# EAGLE library part MODULO (library drv8833)
This board is very similar to our DRV8835 dual motor driver carrier in operating voltage range and continuous current rating, but the DRV8835 has a lower minimum operating voltage, offers an extra control interface mode, and is 0.1″ smaller in each dimension; we also carry a DRV8835 dual motor driver shield that is easy to use with an Arduino. The DRV8833 has a higher peak current rating (2 A per channel vs 1.5 A), optional built-in current-limiting, and no need for externally supplied logic voltage.
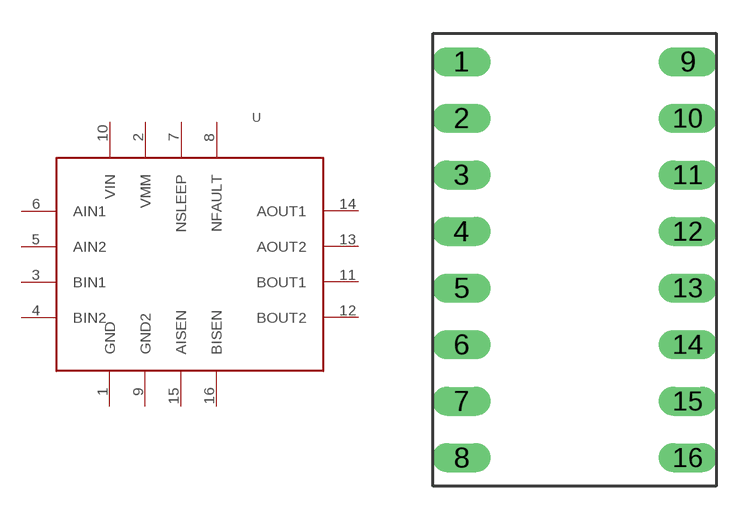
[diagram p0: symbol with the pads of MODULO; footprint MODULO]

Designator prefix -

## MODULO  [MODULO]
1  GND  in
2  VMM  in
3  BIN1  in
4  BIN2  in
5  AIN2  in
6  AIN1  in
7  NSLEEP  in
8  NFAULT  in
9  GND2  in
10  VIN  in
11  BOUT1  out
12  BOUT2  out
13  AOUT2  out
14  AOUT1  out
15  AISEN  in
16  BISEN  in

## Footprint MODULO (pad centres in mm)
This tiny breakout board for TI’s DRV8833 dual motor driver can deliver 1.2 A per channel continuously (2 A peak) to a pair of DC motors. With an operating voltage range from 2.7 V to 10.8 V and built-in protection against reverse-voltage, under-voltage, over-current, and over-temperature, this driver is a great solution for powering small, low-voltage motors.
drill 0.8 long: 1 -3.81,7.62; 2 -3.81,5.08; 3 -3.81,2.54; 4 -3.81,0; 5 -3.81,-2.54; 6 -3.81,-5.08; 7 -3.81,-7.62; 8 -3.81,-10.16; 9 6.35,7.62; 10 6.35,5.08; 11 6.35,2.54; 12 6.35,0; 13 6.35,-2.54; 14 6.35,-5.08; 15 6.35,-7.62; 16 6.35,-10.16